# Altium footprint library Solar-Charger.PcbLib: 29 footprints (part 1 of 2)
Each footprint in its own frame and in the unit in brackets; x right, y up, seen from the top. Pads: shape width x height; smd on the part's side, far side on the other; paste and mask are expansions set on the pad; w line width, h text height; cw(c..) or ccw(c..) is an arc to the next point about the centre after c.
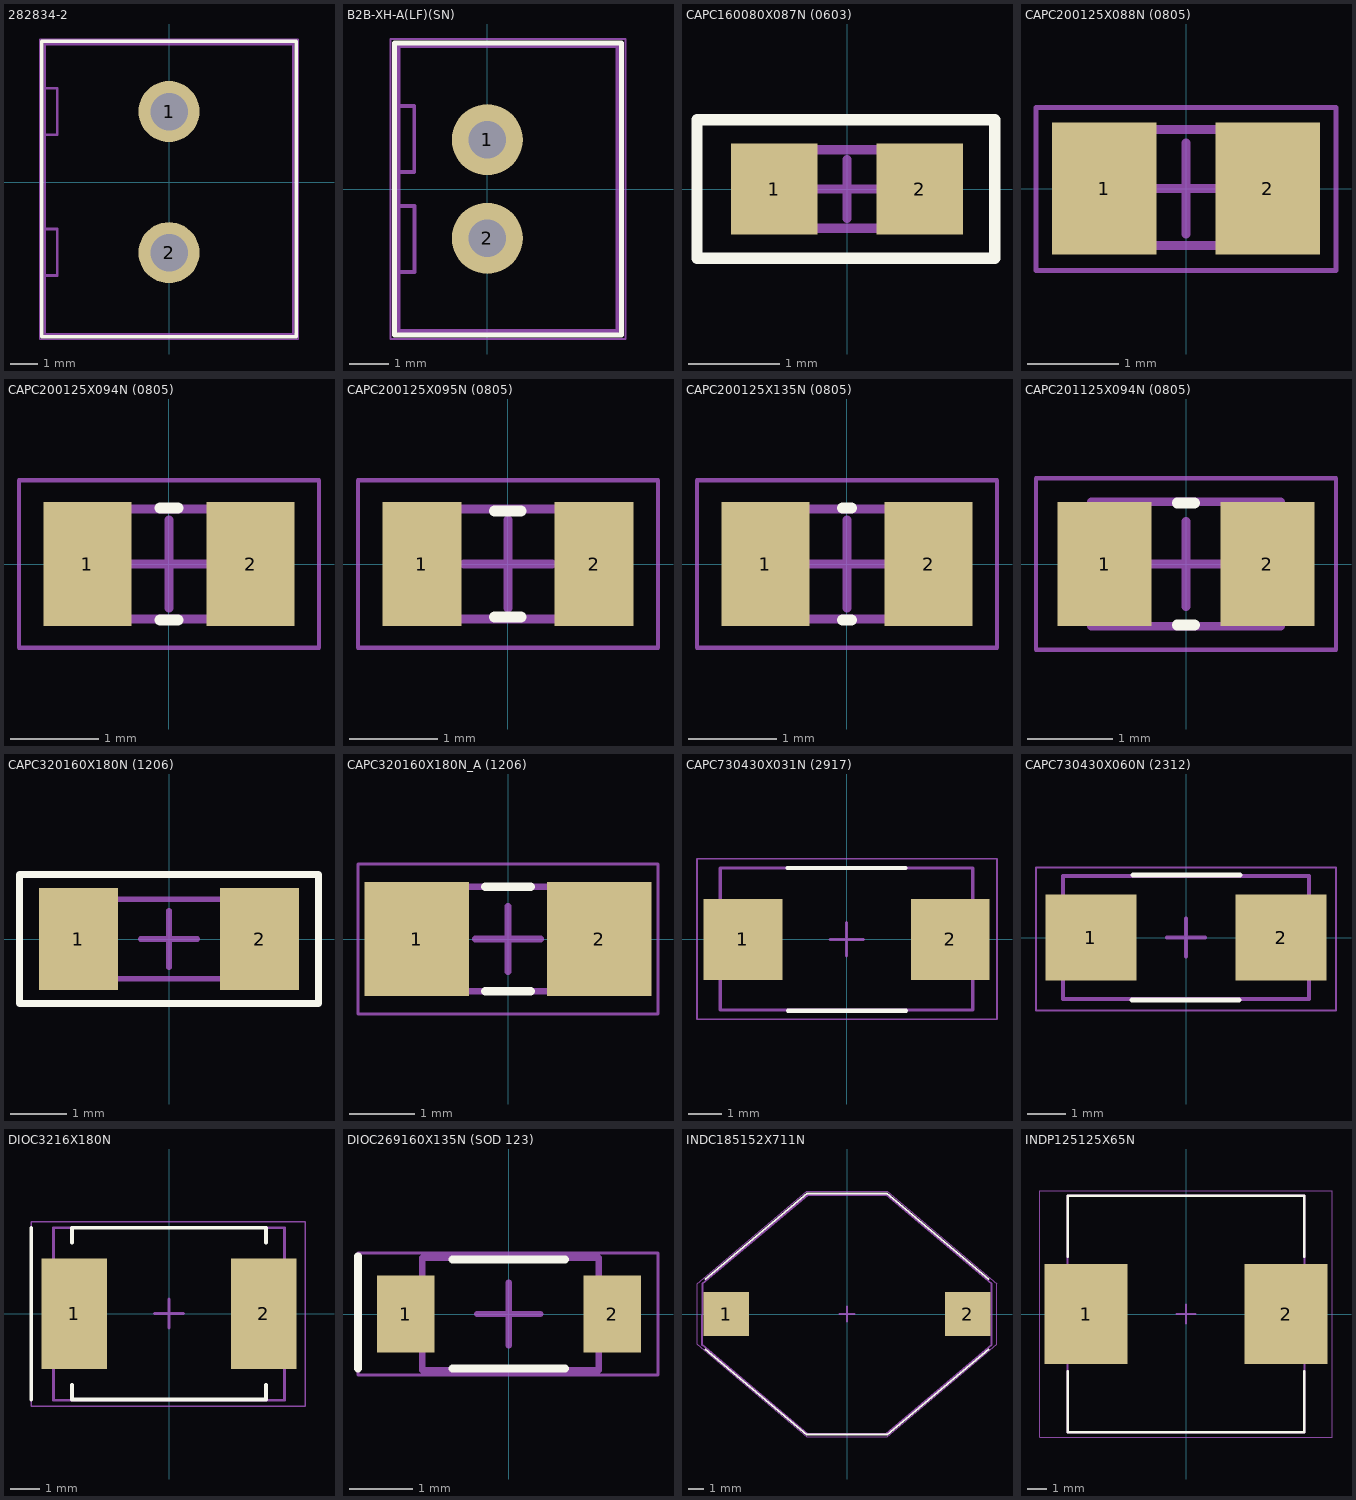
[diagram p0: the footprints below, top view; thin cyan lines are the x and y axes]

## 282834-2 [mm] "2 Position Wire to Board Terminal Block Horizontal with Board 0.100\" (2.54mm) Through Hole"
height 10
pads (2):
  round 2.2 hole 1.35: 1(0,2.54) 2(0,-2.54)
Top Overlay:
  lines w0.125: -4.575,-5.575 4.575,-5.575 4.575,5.075 -4.575,5.075 -4.575,-5.575
Top Assembly:
  lines w0.1: -4.425,-3.363 -4.025,-3.363 -4.025,-1.687 -4.425,-1.687 ; -4.425,1.702 -4.025,1.702 -4.025,3.377 -4.425,3.377 ; 4.475,-5.475 4.475,4.975 -4.475,4.975 -4.475,-5.475 4.5,-5.475
Top Courtyard:
  lines w0.05: -4.65,-5.65 -4.65,5.15 4.65,5.15 4.65,-5.65 -4.65,-5.65
3D body "796681-2--3DModel-STEP-1.STEP": height 15.21, standoff -3.49, extent -4.5,-5.5 4.5,5

## B2B-XH-A(LF)(SN) [mm] "Connector Header Through Hole 2 position 0.098\" (2.50mm)"
height 7
pads (2):
  round 1.8 hole 0.95: 1(0,1.25) 2(0,-1.25)
Top Overlay:
  lines w0.125: -2.35,-3.7 3.4,-3.7 3.4,3.7 -2.35,3.7 -2.35,-3.7
Top Assembly:
  lines w0.1: -2.25,0.425 -1.85,0.425 -1.85,2.1 -2.25,2.1 ; -2.245,-2.103 -1.845,-2.103 -1.845,-0.428 -2.245,-0.428 ; -2.25,-3.6 -2.25,3.625 3.3,3.625 3.3,-3.6 -2.25,-3.6
Top Courtyard:
  lines w0.05: -2.45,-3.8 -2.45,3.8 3.5,3.8 3.5,-3.8 -2.45,-3.8
3D body "B2B-XH-A-LF--SN---3DModel-STEP-418109.STEP": height 7.01, standoff -3.39, extent -2.35,-3.7 3.4,3.7

## CAPC160080X087N (0603) [mm] "Chip Capacitor, 2-Leads, Body 1.60x0.80mm, IPC Medium Density"
height 0.87
pads (2):
  rect 0.95x1 smd: 1(-0.8,0) 2(0.8,0)
Top Overlay:
  lines w0.125: -1.651,-0.762 1.626,-0.762 1.626,0.762 -1.651,0.762 -1.651,-0.762
Top Assembly:
  lines w0.1: -0.813,-0.432 -0.813,0.432 0.813,0.432 0.813,-0.432 -0.813,-0.432
Top Courtyard:
  lines w0.05: -1.65,-0.75 -1.65,0.75 1.65,0.75 1.65,-0.75 -1.65,-0.75
  lines w0.1: -0.325,0 0.325,0 ; 0,-0.325 0,0.325
3D body "C0603C309C3HAC7867.STEP": height 0.81, standoff 0.01, extent -0.8,-0.438 0.8,0.432

## CAPC200125X088N (0805) [mm] "Chip Capacitor, 2-Leads, Body 2.00x1.25mm, IPC Medium Density"
height 0.88
pads (2):
  rect 1.15x1.45 smd: 1(-0.9,0) 2(0.9,0)
Top Assembly:
  lines w0.1: -1.016,-0.625 1.016,-0.625 1.016,0.65 -1.016,0.65 -1.016,-0.625
Top Courtyard:
  lines w0.05: -1.65,-0.9 -1.65,0.892 1.649,0.892 1.649,-0.9 -1.65,-0.9
  lines w0.1: -0.5,0 0.5,0 ; 0,-0.5 0,0.5
3D body "C0805C153F4JAC7800.STEP": height 0.88, standoff 0, extent -1,-0.6 1,0.65

## CAPC200125X094N (0805) [mm] "Chip Capacitor, 2-Leads, Body 2.00x1.25mm, IPC Medium Density"
height 0.94
pads (2):
  rect 1x1.4 smd: 1(-0.925,0) 2(0.925,0)
Top Overlay:
  lines w0.125: -0.102,-0.635 0.1,-0.635 ; -0.1,0.635 0.102,0.635
Top Assembly:
  lines w0.1: -1,-0.625 -1,0.625 1,0.625 1,-0.625 -1,-0.625
Top Courtyard:
  lines w0.05: -1.7,-0.95 -1.7,0.95 1.7,0.95 1.7,-0.95 -1.7,-0.95
  lines w0.1: -0.5,0 0.5,0 ; 0,-0.5 0,0.5
3D body "CAPC2012X09N.step": height 0.94, standoff 0, extent -1,-0.625 1,0.625

## CAPC200125X095N (0805) [mm] "Chip Capacitor, 2-Leads, Body 2.00x1.25mm, IPC Medium Density"
height 0.95
pads (2):
  rect 0.9x1.4 smd: 1(-0.975,0) 2(0.975,0)
Top Overlay:
  lines w0.125: -0.15,-0.6 0.15,-0.6 ; -0.15,0.6 0.15,0.6
Top Assembly:
  lines w0.1: -1,-0.625 1,-0.625 1,0.625 -1,0.625 -1,-0.625
Top Courtyard:
  lines w0.05: -1.7,-0.95 1.7,-0.95 1.7,0.95 -1.7,0.95 -1.7,-0.95
  lines w0.1: -0.5,0 0.5,0 ; 0,-0.5 0,0.5
3D body "CAPC2012X10N.step": height 0.95, standoff 0, extent -1,-0.625 1,0.625

## CAPC200125X135N (0805) [mm] "Chip Capacitor, 2-Leads, Body 2.00x1.25mm, IPC Medium Density"
height 1.35
pads (2):
  rect 1x1.4 smd: 1(-0.925,0) 2(0.925,0)
Top Overlay:
  lines w0.125: -0.051,-0.635 0.049,-0.635 ; -0.051,0.635 0.049,0.635
Top Assembly:
  lines w0.1: -1,-0.625 1,-0.625 1,0.625 -1,0.625 -1,-0.625
Top Courtyard:
  lines w0.05: -1.7,-0.95 1.7,-0.95 1.7,0.95 -1.7,0.95 -1.7,-0.95
  lines w0.1: -0.5,0 0.5,0 ; 0,-0.5 0,0.5
3D body "CAPC2012X14N.step": height 1.35, standoff 0, extent -1,-0.625 1,0.625

## CAPC201125X094N (0805) [mm] "Chip Capacitor, 2-Leads, Body 2.01x1.25mm, IPC Medium Density"
height 0.94
pads (2):
  rect 1.1x1.45 smd: 1(-0.95,0) 2(0.95,0)
Top Overlay:
  lines w0.125: -0.102,-0.711 0.098,-0.711 ; -0.102,0.711 0.098,0.711
Top Assembly:
  lines w0.1: -1.105,-0.725 1.105,-0.725 1.105,0.725 -1.105,0.725 -1.105,-0.725
Top Courtyard:
  lines w0.05: -1.75,-1 1.75,-1 1.75,1 -1.75,1 -1.75,-1
  lines w0.1: -0.5,0 0.5,0 ; 0,-0.5 0,0.5
3D body "CAPC2012X09N.step": height 0.94, standoff 0, extent -1.105,-0.725 1.105,0.725

## CAPC320160X180N (1206) [mm] "Chip Capacitor, 2-Leads, Body 3.20x1.60mm, IPC Medium Density"
height 1.8
pads (2):
  rect 1.4x1.8 smd: 1(-1.6,0) 2(1.6,0)
Top Overlay:
  lines w0.125: -2.642,-1.143 2.642,-1.143 2.642,1.143 -2.642,1.143 -2.642,-1.143
Top Assembly:
  lines w0.1: -1.45,-0.7 -1.45,0.7 1.45,0.7 1.45,-0.7 -1.45,-0.7
Top Courtyard:
  lines w0.05: -2.65,-1.15 -2.65,1.15 2.65,1.15 2.65,-1.15 -2.65,-1.15
  lines w0.1: -0.5,0 0.5,0 ; 0,-0.5 0,0.5
3D body "CAPC3216X18N.step": height 1.8, standoff 0, extent -1.45,-0.7 1.45,0.7

## CAPC320160X180N_A (1206) [mm] "Chip Capacitor, 2-Leads, Body 3.20x1.60mm, IPC Medium Density"
height 1.8
pads (2):
  rect 1.6x1.75 smd: 1(-1.4,0) 2(1.4,0)
Top Overlay:
  lines w0.125: -0.35,-0.8 0.35,-0.8 ; -0.35,0.8 0.35,0.8
Top Assembly:
  lines w0.1: -1.6,-0.8 -1.6,0.8 1.6,0.8 1.6,-0.8 -1.6,-0.8
Top Courtyard:
  lines w0.05: -2.3,-1.15 -2.3,1.15 2.3,1.15 2.3,-1.15 -2.3,-1.15
  lines w0.1: -0.5,0 0.5,0 ; 0,-0.5 0,0.5
3D body "C3216X5R1V226M160AC.STEP": height 1.61, standoff 0.01, extent -1.6,-0.889 1.6,0.911

## CAPC730430X031N (2917) [mm] "Chip Capacitor, 2-Leads, Body 7.30x4.30mm, IPC Medium Density"
height 3.1
pads (2):
  rect 2.37x2.43 smd: 1(-3.12,0) 2(3.12,0)
Top Overlay:
  lines w0.125: -1.775,2.15 1.775,2.15 ; -1.764,-2.148 1.786,-2.148
Top Assembly:
  lines w0.1: -3.8,-2.125 -3.8,2.15 3.8,2.15 3.8,-2.125 -3.8,-2.125
Top Courtyard:
  lines w0.05: -4.5,-2.4 4.525,-2.4 4.525,2.425 -4.5,2.425 -4.5,-2.4
  lines w0.1: -0.5,0 0.5,0 ; 0,-0.5 0,0.5
3D body "CTSM_TCM2NK_7343_L7.6W4.6H3.1T0.13S1.3F2.5A3.6B0.65E3.5G3.5P0.9R1X0.2.step": height 3.11, standoff 0, extent -3.8,-2.286 3.8,2.314

## CAPC730430X060N (2312) [mm] "Chip Capacitor, 2-Leads, Body 6.00x3.20mm, IPC Medium Density"
height 2.8
pads (2):
  rect 2.37x2.23 smd: 1(-2.47,0) 2(2.47,0)
Top Overlay:
  lines w0.125: -1.4,-1.625 1.375,-1.625 ; -1.375,1.625 1.4,1.625
Top Assembly:
  lines w0.1: 3.194,-1.601 -3.2,-1.601 -3.2,1.6 3.2,1.6 3.2,-1.6
Top Courtyard:
  lines w0.05: -3.9,-1.9 -3.9,1.825 3.9,1.825 3.9,-1.9 -3.9,-1.9
  lines w0.1: -0.5,0 0.5,0 ; 0,-0.5 0,0.5
3D body "CTSM_TCM2NK_6032_L6.3W3.5H2.8T0.13S1.3F2.3A2.9B0.65E2.4G2.8P0.9R1X0.2.step": height 2.81, standoff 0, extent -3.15,-1.75 3.15,1.75

## DIOC3216X180N [mm] "Chip Diode, 2-Leads, Body 3.20x1.60mm, IPC Medium Density"
height 1.8
pads (2):
  rect 2.25x3.79 smd: 1(-3.25,0) 2(3.25,0)
Top Overlay:
  lines w0.125: -4.724,-2.946 -4.724,2.946 ; -3.327,-2.438 -3.327,-2.946 3.327,-2.946 3.327,-2.438 ; -3.327,2.438 -3.327,2.946 3.327,2.946 3.327,2.438
Top Assembly:
  lines w0.1: -3.962,-2.972 -3.962,2.946 3.962,2.946 3.962,-2.972 -3.962,-2.972
Top Courtyard:
  lines w0.05: -4.724,-3.175 -4.724,3.15 4.674,3.15 4.674,-3.175 -4.724,-3.175
  lines w0.1: -0.5,0 0.5,0 ; 0,-0.5 0,0.5
3D body "MBRS330T3G.STEP": height 2.6, standoff -0.01, extent -3.975,-2.95 3.975,2.95

## DIOC269160X135N (SOD 123) [mm] "Chip Diode, 2-Leads, Body 2.00x1.25mm, IPC Medium Density"
height 1.35
pads (2):
  rect 0.91x1.22 smd: 1(-1.635,0) 2(1.635,0)
Top Overlay:
  lines w0.125: -2.388,-0.864 -2.388,0.914 ; -0.889,-0.864 0.889,-0.864 ; -0.889,0.864 0.889,0.864
Top Assembly:
  lines w0.1: -1.372,-0.889 1.422,-0.889 1.422,0.889 -1.372,0.889 -1.372,-0.889
Top Courtyard:
  lines w0.05: -2.388,-0.965 -2.388,-0.483 -2.388,0.483 -2.388,0.965 2.362,0.965 2.362,-0.965 -2.388,-0.965
  lines w0.1: -0.5,0 0.5,0 ; 0,-0.5 0,0.5
3D body "SOD-123_425-04_ONS.step": height 1.35, standoff 0, extent -1.93,-0.902 1.93,0.902

## INDC185152X711N [mm] "Chip Inductor, 2-Leads, Body 2.01x1.25mm, IPC Medium Density"
height 7.11
pads (2):
  rect 2.92x2.79 smd: 1(-7.73,0) 2(7.73,0)
Top Overlay:
  lines w0.125: -9.068,-2.261 -2.584,-7.722 0,-7.722 2.584,-7.722 9.068,-2.261 ; -9.068,2.235 -2.554,7.722 0,7.722 2.554,7.722 9.068,2.235
Top Assembly:
  lines w0.125: -9.275,-0.054 -9.275,-1.972 -2.526,-7.666 -0.012,-7.666 2.503,-7.666 9.251,-1.972 9.251,-0.054 ; -9.263,0.008 -9.263,1.926 -2.515,7.62 0,7.62 ; -0.012,7.625 2.503,7.625 9.251,1.931 9.251,0.013
Top Courtyard:
  lines w0.05: -9.601,-1.93 -2.565,-7.849 0,-7.849 2.565,-7.849 9.601,-1.93 9.601,0 9.601,1.93 2.565,7.849 0,7.849 -2.565,7.849 -9.601,1.93 -9.601,0 -9.601,-1.93
  lines w0.1: -0.5,0 0.5,0 ; 0,-0.5 0,0.5
3D body "ASPI-1306T-220M-T--3DModel-STEP-400430.STEP": height 7.12, standoff 0.01, extent -9.27,-7.62 9.27,7.62

## INDP125125X65N [mm] "Precision Wire Wound Inductor, 2-Leads, Body 12.50x12.50mm, IPC Medium Density"
height 6.5
pads (2):
  rect 4.3x5.15 smd: 1(-5.15,0) 2(5.15,0)
Top Overlay:
  lines w0.125: -6.1,-2.937 -6.1,-6.1 6.1,-6.1 6.1,-2.937 ; -6.1,2.938 -6.1,6.1 6.1,6.1 6.1,2.938
Top Assembly:
  lines w0.1: -6.1,-6.1 -6.1,6.1 6.1,6.1 6.1,-6.1 -6.1,-6.1
Top Courtyard:
  lines w0.05: -7.525,-6.35 -7.525,6.35 7.525,6.35 7.525,-6.35 -7.525,-6.35
  lines w0.1: -0.5,0 0.5,0 ; 0,-0.5 0,0.5
3D body "SRR1260-150M .STEP": height 6, standoff 0, extent -6.25,-6.25 6.25,6.25